# EAGLE library part LT1080 (library linear-technology)
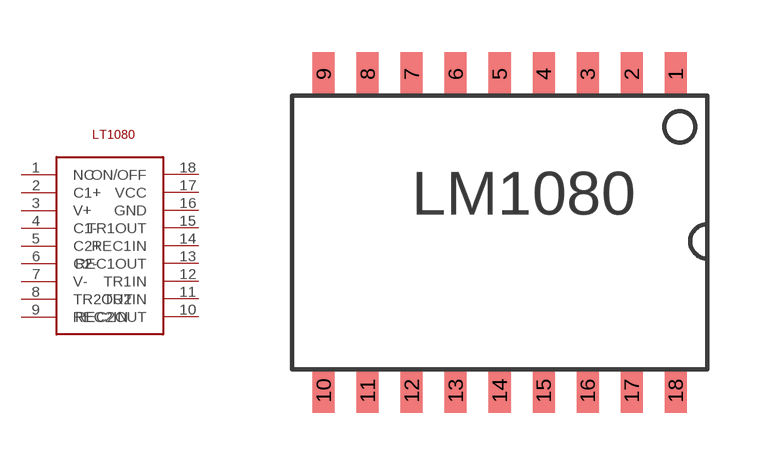
[diagram p3: symbol with the pads of LT1080; footprint LT1080]

Designator prefix -

## LT1080  [LT1080]
1  NC
2  C1+
3  V+
4  C1-
5  C2+
6  C2-
7  V-
8  TR2OUT
9  REC2IN
10  REC2OUT
11  TR2IN
12  TR1IN
13  REC1OUT
14  REC1IN
15  TR1OUT
16  GND
17  VCC
18  ON/OFF

## Footprint LT1080 (pad centres in mm)
smd 0.635 x 1.27: 1 5.08,5.334; 2 3.81,5.334; 3 2.54,5.334; 4 1.27,5.334; 5 0,5.334; 6 -1.27,5.334; 7 -2.54,5.334; 8 -3.81,5.334; 9 -5.08,5.334; 10 -5.08,-3.81; 11 -3.81,-3.81; 12 -2.54,-3.81; 13 -1.27,-3.81; 14 0,-3.81; 15 1.27,-3.81; 16 2.54,-3.81; 17 3.81,-3.81; 18 5.08,-3.81